# Altium schematic symbol library Analog.SchLib: 165 symbols (part 3 of 5)
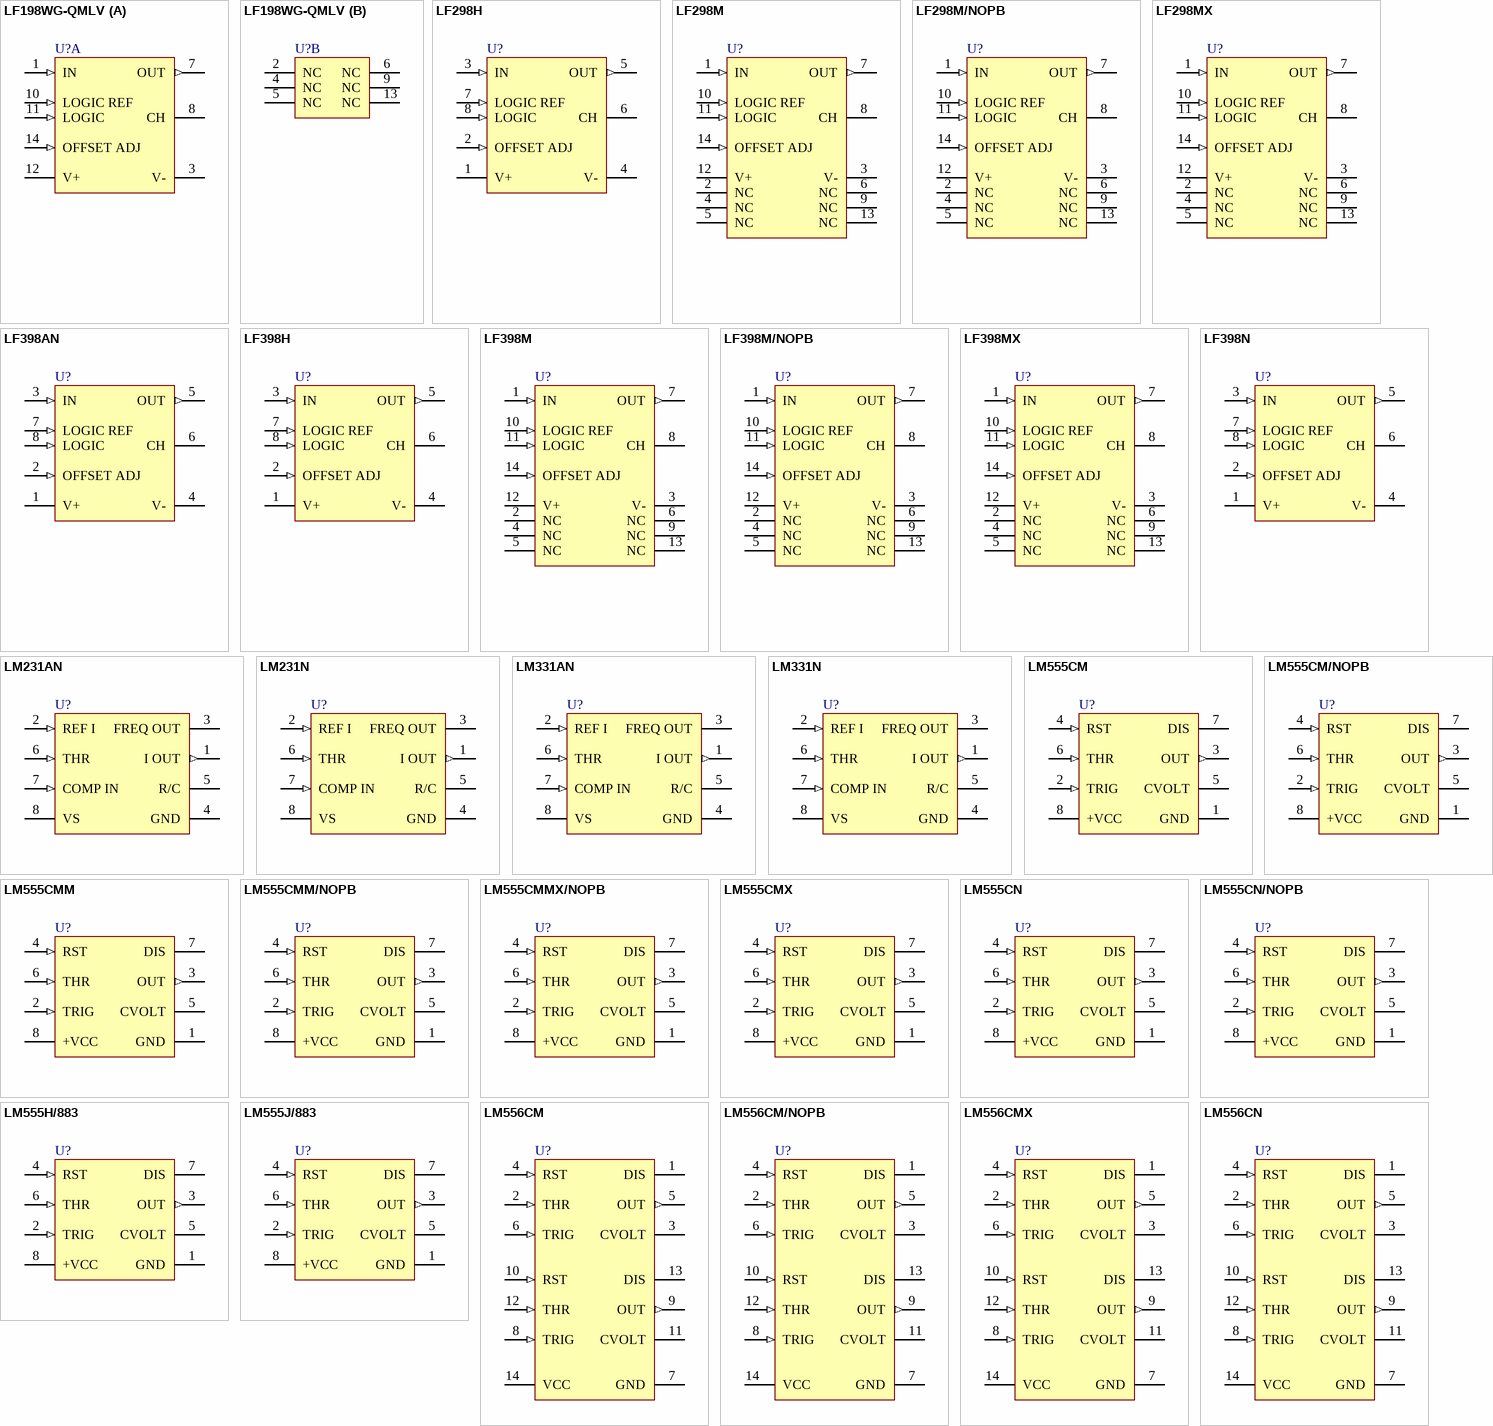
[diagram p9: symbols LF198WG-QMLV to LM556CN]

## LF398MX
designator U?
Monolithic Sample and Hold Circuits, 14-pin Narrow SOIC; PartNumber: LF398MX; Manufacturer: National Semiconductor; PackageTopMarking: NSUZXYTTE#*LF398M; PowerWise: N; CompType: Analog IC; High-Reliability: Y; DatasheetVersion: Jul-2000; PackageVersion: revJ, Jan-1996; PackageReference: M14A; PackageDescription: Molded Package S.O., .150in Wide, 14 Lead; RoHS: N; PinCount: 14; Code_JEDEC: MS-012AB; Code_IPC: SOIC127P600-14; ComponentLink1Description: Manufacturer URL; ComponentLink1URL: http://www.national.com/; ComponentLink2Description: LF398 Datasheet; ComponentLink2URL: http://www.national.com/ds/LF/LF398.pdf; ComponentLink3Description: LF398 Web Page; ComponentLink3URL: http://www.national.com/pf/LF/LF398.html; ComponentLink4Description: M14A Package Page; ComponentLink4URL: http://www.national.com/packaging/folders/m14a.html
footprint M14A_N (SOIC, 14-Leads, Body 8.6x3.9mm, Pitch 1.27mm, IPC Medium Density)
footprint M14A_L (SOIC, 14-Leads, Body 8.6x3.9mm, Pitch 1.27mm, IPC High Density)
footprint M14A_M (SOIC, 14-Leads, Body 8.6x3.9mm, Pitch 1.27mm, IPC Low Density)
pins: 1 IN (in), 2 NC, 3 V- (power), 4 NC, 5 NC, 6 NC, 7 OUT (out), 8 CH, 9 NC, 10 LOGIC REF (in), 11 LOGIC (in), 12 V+ (power), 13 NC, 14 OFFSET ADJ (in)

## LF398N
designator U?
Monolithic Sample and Hold Circuits, 8-pin MDIP; PartNumber: LF398N; Manufacturer: National Semiconductor; PackageTopMarking: NSUZXYTTE#*LF*398N; PowerWise: N; CompType: Analog IC; High-Reliability: Y; DatasheetVersion: Jul-2000; PackageVersion: revG, May-2006; PackageReference: N08E; PackageDescription: MDIP, .365 x .250 x .130in, 8 Lead, .100in Pitch; RoHS: N; PinCount: 8; Code_JEDEC: MS-001-BA; ComponentLink1Description: Manufacturer URL; ComponentLink1URL: http://www.national.com/; ComponentLink2Description: LF398 Datasheet; ComponentLink2URL: http://www.national.com/ds/LF/LF398.pdf; ComponentLink3Description: LF398 Web Page; ComponentLink3URL: http://www.national.com/pf/LF/LF398.html; ComponentLink4Description: N08E Package Page; ComponentLink4URL: http://www.national.com/packaging/folders/n08e.html
footprint N08E (DIP, 8-Leads, Row Spacing 7.62mm, Pitch 2.54mm, Body 9.91x6.35mm)
pins: 1 V+ (power), 2 OFFSET ADJ (in), 3 IN (in), 4 V- (power), 5 OUT (out), 6 CH, 7 LOGIC REF (in), 8 LOGIC (in)

## LM231AN
designator U?
Precision Voltage-to-Frequency Converters, 8-pin MDIP; PartNumber: LM231AN; Manufacturer: National Semiconductor; PackageTopMarking: NSUZXYTTE#*LM*231AN; PowerWise: N; CompType: Analog IC; High-Reliability: Y; DatasheetVersion: Apr-2006; PackageVersion: revG, May-2006; PackageReference: N08E; PackageDescription: MDIP, .365 x .250 x .130in, 8 Lead, .100in Pitch; RoHS: N; PinCount: 8; Code_JEDEC: MS-001-BA; ComponentLink1Description: Manufacturer URL; ComponentLink1URL: http://www.national.com/; ComponentLink2Description: LM231 Datasheet; ComponentLink2URL: http://www.national.com/ds/LM/LM231.pdf; ComponentLink3Description: LM231 Web Page; ComponentLink3URL: http://www.national.com/pf/LM/LM231.html; ComponentLink4Description: N08E Package Page; ComponentLink4URL: http://www.national.com/packaging/folders/n08e.html
footprint N08E (DIP, 8-Leads, Row Spacing 7.62mm, Pitch 2.54mm, Body 9.91x6.35mm)
pins: 1 I OUT (out), 2 REF I (in), 3 FREQ OUT (oc), 4 GND (power), 5 R/C, 6 THR (in), 7 COMP IN (in), 8 VS (power)

## LM231N
designator U?
Precision Voltage-to-Frequency Converters, 8-pin MDIP; PartNumber: LM231N; Manufacturer: National Semiconductor; PackageTopMarking: NSUZXYTTE#*LM*231N; PowerWise: N; CompType: Analog IC; High-Reliability: Y; DatasheetVersion: Apr-2006; PackageVersion: revG, May-2006; PackageReference: N08E; PackageDescription: MDIP, .365 x .250 x .130in, 8 Lead, .100in Pitch; RoHS: N; PinCount: 8; Code_JEDEC: MS-001-BA; ComponentLink1Description: Manufacturer URL; ComponentLink1URL: http://www.national.com/; ComponentLink2Description: LM231 Datasheet; ComponentLink2URL: http://www.national.com/ds/LM/LM231.pdf; ComponentLink3Description: LM231 Web Page; ComponentLink3URL: http://www.national.com/pf/LM/LM231.html; ComponentLink4Description: N08E Package Page; ComponentLink4URL: http://www.national.com/packaging/folders/n08e.html
footprint N08E (DIP, 8-Leads, Row Spacing 7.62mm, Pitch 2.54mm, Body 9.91x6.35mm)
pins: 1 I OUT (out), 2 REF I (in), 3 FREQ OUT (oc), 4 GND (power), 5 R/C, 6 THR (in), 7 COMP IN (in), 8 VS (power)

## LM331AN
designator U?
Precision Voltage-to-Frequency Converters, 8-pin MDIP; PartNumber: LM331AN; Manufacturer: National Semiconductor; PackageTopMarking: NSUZXYTTE#*LM*331AN; PowerWise: N; CompType: Analog IC; High-Reliability: Y; DatasheetVersion: Apr-2006; PackageVersion: revG, May-2006; PackageReference: N08E; PackageDescription: MDIP, .365 x .250 x .130in, 8 Lead, .100in Pitch; RoHS: N; PinCount: 8; Code_JEDEC: MS-001-BA; ComponentLink1Description: Manufacturer URL; ComponentLink1URL: http://www.national.com/; ComponentLink2Description: LM331 Datasheet; ComponentLink2URL: http://www.national.com/ds/LM/LM331.pdf; ComponentLink3Description: LM331 Web Page; ComponentLink3URL: http://www.national.com/pf/LM/LM331.html; ComponentLink4Description: N08E Package Page; ComponentLink4URL: http://www.national.com/packaging/folders/n08e.html
footprint N08E (DIP, 8-Leads, Row Spacing 7.62mm, Pitch 2.54mm, Body 9.91x6.35mm)
pins: 1 I OUT (out), 2 REF I (in), 3 FREQ OUT (oc), 4 GND (power), 5 R/C, 6 THR (in), 7 COMP IN (in), 8 VS (power)

## LM331N
designator U?
Precision Voltage-to-Frequency Converters, 8-pin MDIP; PartNumber: LM331N; Manufacturer: National Semiconductor; PackageTopMarking: NSUZXYTTE#*LM*331N; PowerWise: N; CompType: Analog IC; High-Reliability: Y; DatasheetVersion: Apr-2006; PackageVersion: revG, May-2006; PackageReference: N08E; PackageDescription: MDIP, .365 x .250 x .130in, 8 Lead, .100in Pitch; RoHS: N; PinCount: 8; Code_JEDEC: MS-001-BA; ComponentLink1Description: Manufacturer URL; ComponentLink1URL: http://www.national.com/; ComponentLink2Description: LM331 Datasheet; ComponentLink2URL: http://www.national.com/ds/LM/LM331.pdf; ComponentLink3Description: LM331 Web Page; ComponentLink3URL: http://www.national.com/pf/LM/LM331.html; ComponentLink4Description: N08E Package Page; ComponentLink4URL: http://www.national.com/packaging/folders/n08e.html
footprint N08E (DIP, 8-Leads, Row Spacing 7.62mm, Pitch 2.54mm, Body 9.91x6.35mm)
pins: 1 I OUT (out), 2 REF I (in), 3 FREQ OUT (oc), 4 GND (power), 5 R/C, 6 THR (in), 7 COMP IN (in), 8 VS (power)

## LM555CM
designator U?
Timer, 8-pin Narrow SOIC; PartNumber: LM555CM; Manufacturer: National Semiconductor; PackageTopMarking: NSZXTT*LM*555CM; PowerWise: N; CompType: Analog IC; High-Reliability: Y; DatasheetVersion: Jul-2006; PackageVersion: revM, May-2009; PackageReference: M08A; PackageDescription: SOIC Narrow, 4.9 x 3.9 x 1.45mm, 8 Lead, 1.27mm Pitch; RoHS: N; PinCount: 8; Code_JEDEC: MS-012-AA; Code_IPC: SOIC127P600-8; ComponentLink1Description: Manufacturer URL; ComponentLink1URL: http://www.national.com/; ComponentLink2Description: LM555 Datasheet; ComponentLink2URL: http://www.national.com/ds/LM/LM555.pdf; ComponentLink3Description: LM555 Web Page; ComponentLink3URL: http://www.national.com/pf/LM/LM555.html; ComponentLink4Description: M08A Package Page; ComponentLink4URL: http://www.national.com/packaging/folders/m08a.html
footprint M08A_N (SOIC, 8-Leads, Body 4.9x3.9mm, Pitch 1.27mm, IPC Medium Density)
footprint M08A_L (SOIC, 8-Leads, Body 4.9x3.9mm, Pitch 1.27mm, IPC High Density)
footprint M08A_M (SOIC, 8-Leads, Body 4.9x3.9mm, Pitch 1.27mm, IPC Low Density)
pins: 1 GND (power), 2 TRIG (in), 3 OUT (out), 4 RST (in), 5 CVOLT, 6 THR (in), 7 DIS (oc), 8 +VCC (power)

## LM555CM/NOPB
designator U?
Timer, 8-pin Narrow SOIC, Pb-Free; PartNumber: LM555CM/NOPB; Manufacturer: National Semiconductor; PackageTopMarking: NSZXTT*LM*555CM; PowerWise: N; CompType: Analog IC; High-Reliability: Y; DatasheetVersion: Jul-2006; PackageVersion: revM, May-2009; PackageReference: M08A; PackageDescription: SOIC Narrow, 4.9 x 3.9 x 1.45mm, 8 Lead, 1.27mm Pitch; RoHS: Y; PinCount: 8; Code_JEDEC: MS-012-AA; Code_IPC: SOIC127P600-8; ComponentLink1Description: Manufacturer URL; ComponentLink1URL: http://www.national.com/; ComponentLink2Description: LM555 Datasheet; ComponentLink2URL: http://www.national.com/ds/LM/LM555.pdf; ComponentLink3Description: LM555 Web Page; ComponentLink3URL: http://www.national.com/pf/LM/LM555.html; ComponentLink4Description: M08A Package Page; ComponentLink4URL: http://www.national.com/packaging/folders/m08a.html
footprint M08A_N (SOIC, 8-Leads, Body 4.9x3.9mm, Pitch 1.27mm, IPC Medium Density)
footprint M08A_L (SOIC, 8-Leads, Body 4.9x3.9mm, Pitch 1.27mm, IPC High Density)
footprint M08A_M (SOIC, 8-Leads, Body 4.9x3.9mm, Pitch 1.27mm, IPC Low Density)
pins: 1 GND (power), 2 TRIG (in), 3 OUT (out), 4 RST (in), 5 CVOLT, 6 THR (in), 7 DIS (oc), 8 +VCC (power)

## LM555CMM
designator U?
Timer, 8-pin Mini SOIC; PartNumber: LM555CMM; Manufacturer: National Semiconductor; PackageTopMarking: ZXTT*Z55; PowerWise: N; CompType: Analog IC; High-Reliability: Y; DatasheetVersion: Jul-2006; PackageVersion: revF, Apr-2008; PackageReference: MUA08A; PackageDescription: MINI SOIC, .118 x .118 x .034in, 8 Lead, .0256in Pitch; RoHS: N; PinCount: 8; Code_JEDEC: MO-187-AA; ComponentLink1Description: Manufacturer URL; ComponentLink1URL: http://www.national.com/; ComponentLink2Description: LM555 Datasheet; ComponentLink2URL: http://www.national.com/ds/LM/LM555.pdf; ComponentLink3Description: LM555 Web Page; ComponentLink3URL: http://www.national.com/pf/LM/LM555.html; ComponentLink4Description: MUA08A Package Page; ComponentLink4URL: http://www.national.com/packaging/folders/mua08a.html
footprint MUA08A_N (TSOP, 8-Leads, Body 3x3mm, Pitch 0.65mm, IPC Medium Density)
footprint MUA08A_L (TSOP, 8-Leads, Body 3x3mm, Pitch 0.65mm, IPC High Density)
footprint MUA08A_M (TSOP, 8-Leads, Body 3x3mm, Pitch 0.65mm, IPC Low Density)
pins: 1 GND (power), 2 TRIG (in), 3 OUT (out), 4 RST (in), 5 CVOLT, 6 THR (in), 7 DIS (oc), 8 +VCC (power)

## LM555CMM/NOPB
designator U?
Timer, 8-pin Mini SOIC, Pb-Free; PartNumber: LM555CMM/NOPB; Manufacturer: National Semiconductor; PackageTopMarking: ZXTT*Z55; PowerWise: N; CompType: Analog IC; High-Reliability: Y; DatasheetVersion: Jul-2006; PackageVersion: revF, Apr-2008; PackageReference: MUA08A; PackageDescription: MINI SOIC, .118 x .118 x .034in, 8 Lead, .0256in Pitch; RoHS: Y; PinCount: 8; Code_JEDEC: MO-187-AA; ComponentLink1Description: Manufacturer URL; ComponentLink1URL: http://www.national.com/; ComponentLink2Description: LM555 Datasheet; ComponentLink2URL: http://www.national.com/ds/LM/LM555.pdf; ComponentLink3Description: LM555 Web Page; ComponentLink3URL: http://www.national.com/pf/LM/LM555.html; ComponentLink4Description: MUA08A Package Page; ComponentLink4URL: http://www.national.com/packaging/folders/mua08a.html
footprint MUA08A_N (TSOP, 8-Leads, Body 3x3mm, Pitch 0.65mm, IPC Medium Density)
footprint MUA08A_L (TSOP, 8-Leads, Body 3x3mm, Pitch 0.65mm, IPC High Density)
footprint MUA08A_M (TSOP, 8-Leads, Body 3x3mm, Pitch 0.65mm, IPC Low Density)
pins: 1 GND (power), 2 TRIG (in), 3 OUT (out), 4 RST (in), 5 CVOLT, 6 THR (in), 7 DIS (oc), 8 +VCC (power)

## LM555CMMX/NOPB
designator U?
Timer, 8-pin Mini SOIC, Pb-Free; PartNumber: LM555CMMX/NOPB; Manufacturer: National Semiconductor; PackageTopMarking: ZXTT*Z55; PowerWise: N; CompType: Analog IC; High-Reliability: Y; DatasheetVersion: Jul-2006; PackageVersion: revF, Apr-2008; PackageReference: MUA08A; PackageDescription: MINI SOIC, .118 x .118 x .034in, 8 Lead, .0256in Pitch; RoHS: N; PinCount: 8; Code_JEDEC: MO-187-AA; ComponentLink1Description: Manufacturer URL; ComponentLink1URL: http://www.national.com/; ComponentLink2Description: LM555 Datasheet; ComponentLink2URL: http://www.national.com/ds/LM/LM555.pdf; ComponentLink3Description: LM555 Web Page; ComponentLink3URL: http://www.national.com/pf/LM/LM555.html; ComponentLink4Description: MUA08A package page; ComponentLink4URL: http://www.national.com/packaging/folders/mua08a.html
footprint MUA08A_N (TSOP, 8-Leads, Body 3x3mm, Pitch 0.65mm, IPC Medium Density)
footprint MUA08A_L (TSOP, 8-Leads, Body 3x3mm, Pitch 0.65mm, IPC High Density)
footprint MUA08A_M (TSOP, 8-Leads, Body 3x3mm, Pitch 0.65mm, IPC Low Density)
pins: 1 GND (power), 2 TRIG (in), 3 OUT (out), 4 RST (in), 5 CVOLT, 6 THR (in), 7 DIS (oc), 8 +VCC (power)

## LM555CMX
designator U?
Timer, 8-pin Narrow SOIC; PartNumber: LM555CMX; Manufacturer: National Semiconductor; PackageTopMarking: NSZXTT*LM*555CM; PowerWise: N; CompType: Analog IC; High-Reliability: Y; DatasheetVersion: Jul-2006; PackageVersion: revM, May-2009; PackageReference: M08A; PackageDescription: SOIC Narrow, 4.9 x 3.9 x 1.45mm, 8 Lead, 1.27mm Pitch; RoHS: N; PinCount: 8; Code_JEDEC: MS-012-AA; Code_IPC: SOIC127P600-8; ComponentLink1Description: Manufacturer URL; ComponentLink1URL: http://www.national.com/; ComponentLink2Description: LM555 Datasheet; ComponentLink2URL: http://www.national.com/ds/LM/LM555.pdf; ComponentLink3Description: LM555 Web Page; ComponentLink3URL: http://www.national.com/pf/LM/LM555.html; ComponentLink4Description: M08A Package Page; ComponentLink4URL: http://www.national.com/packaging/folders/m08a.html
footprint M08A_N (SOIC, 8-Leads, Body 4.9x3.9mm, Pitch 1.27mm, IPC Medium Density)
footprint M08A_L (SOIC, 8-Leads, Body 4.9x3.9mm, Pitch 1.27mm, IPC High Density)
footprint M08A_M (SOIC, 8-Leads, Body 4.9x3.9mm, Pitch 1.27mm, IPC Low Density)
pins: 1 GND (power), 2 TRIG (in), 3 OUT (out), 4 RST (in), 5 CVOLT, 6 THR (in), 7 DIS (oc), 8 +VCC (power)

## LM555CN
designator U?
Timer, 8-pin MDIP; PartNumber: LM555CN; Manufacturer: National Semiconductor; PackageTopMarking: NSUZXYTTE#*LM*555CN; PowerWise: N; CompType: Analog IC; High-Reliability: Y; DatasheetVersion: Jul-2006; PackageVersion: revG, May-2006; PackageReference: N08E; PackageDescription: MDIP, .365 x .250 x .130in, 8 Lead, .100in Pitch; RoHS: N; PinCount: 8; Code_JEDEC: MS-001-BA; ComponentLink1Description: Manufacturer URL; ComponentLink1URL: http://www.national.com/; ComponentLink2Description: LM555 Datasheet; ComponentLink2URL: http://www.national.com/ds/LM/LM555.pdf; ComponentLink3Description: LM555 Web Page; ComponentLink3URL: http://www.national.com/pf/LM/LM555.html; ComponentLink4Description: N08E Package Page; ComponentLink4URL: http://www.national.com/packaging/folders/n08e.html
footprint N08E (DIP, 8-Leads, Row Spacing 7.62mm, Pitch 2.54mm, Body 9.91x6.35mm)
pins: 1 GND (power), 2 TRIG (in), 3 OUT (out), 4 RST (in), 5 CVOLT, 6 THR (in), 7 DIS (oc), 8 +VCC (power)

## LM555CN/NOPB
designator U?
Timer, 8-pin MDIP, Pb-Free; PartNumber: LM555CN/NOPB; Manufacturer: National Semiconductor; PackageTopMarking: NSUZXYTTE#*LM*555CN; PowerWise: N; CompType: Analog IC; High-Reliability: Y; DatasheetVersion: Jul-2006; PackageVersion: revG, May-2006; PackageReference: N08E; PackageDescription: MDIP, .365 x .250 x .130in, 8 Lead, .100in Pitch; RoHS: Y; PinCount: 8; Code_JEDEC: MS-001-BA; ComponentLink1Description: Manufacturer URL; ComponentLink1URL: http://www.national.com/; ComponentLink2Description: LM555 Datasheet; ComponentLink2URL: http://www.national.com/ds/LM/LM555.pdf; ComponentLink3Description: LM555 Web Page; ComponentLink3URL: http://www.national.com/pf/LM/LM555.html; ComponentLink4Description: N08E Package Page; ComponentLink4URL: http://www.national.com/packaging/folders/n08e.html
footprint N08E (DIP, 8-Leads, Row Spacing 7.62mm, Pitch 2.54mm, Body 9.91x6.35mm)
pins: 1 GND (power), 2 TRIG (in), 3 OUT (out), 4 RST (in), 5 CVOLT, 6 THR (in), 7 DIS (oc), 8 +VCC (power)

## LM555H/883
designator U?
Timer, 8-pin TO-99; PartNumber: LM555H/883; Manufacturer: National Semiconductor; PackageTopMarking: NSZSSXXYYA LM555H/883 Q; PowerWise: N; CompType: Analog IC; High-Reliability: Y; DatasheetVersion: Jul-2006; PackageVersion: revF, Jun-1995; PackageReference: H08C; PackageDescription: Metal Can, TO-99, 8 Lead, .200 Dia., P.C.; RoHS: N; PinCount: 8; Code_JEDEC: TO-99; ComponentLink1Description: Manufacturer URL; ComponentLink1URL: http://www.national.com/; ComponentLink2Description: LM555 Datasheet; ComponentLink2URL: http://www.national.com/ds/LM/LM555QML.pdf; ComponentLink3Description: LM555 Web Page; ComponentLink3URL: http://www.national.com/pf/LM/LM555.html; ComponentLink4Description: H08C Package Page; ComponentLink4URL: http://www.national.com/packaging/folders/h08c.html
footprint H08C (Can; 8 Leads; Pin Circle Dia. 5.08 mm; Lead Dia. 0.48 mm (max))
pins: 1 GND (power), 2 TRIG (in), 3 OUT (out), 4 RST (in), 5 CVOLT, 6 THR (in), 7 DIS (oc), 8 +VCC (power)

## LM555J/883
designator U?
Timer, 8-pin CerDIP; PartNumber: LM555J/883; Manufacturer: National Semiconductor; PackageTopMarking: NSZSSXXYYA*LM555J/*883 Q; PowerWise: N; CompType: Analog IC; High-Reliability: Y; DatasheetVersion: Jul-2006; PackageVersion: revM, Jul-2002; PackageReference: J08A; PackageDescription: Cerdip, .400 x .310in Body, 8 Lead, .300in Centers, .100in Pitch; RoHS: N; PinCount: 8; ComponentLink1Description: Manufacturer URL; ComponentLink1URL: http://www.national.com/; ComponentLink2Description: LM555 Datasheet; ComponentLink2URL: http://www.national.com/ds/LM/LM555QML.pdf; ComponentLink3Description: LM555 Web Page; ComponentLink3URL: http://www.national.com/pf/LM/LM555.html; ComponentLink4Description: J08A Package Page; ComponentLink4URL: http://www.national.com/packaging/folders/j08a.html
footprint J08A (DIP, 8-Leads, Row Spacing 7.62mm, Pitch 2.54mm, Body 9.78x6.73mm)
pins: 1 GND (power), 2 TRIG (in), 3 OUT (out), 4 RST (in), 5 CVOLT, 6 THR (in), 7 DIS (oc), 8 +VCC (power)

## LM556CM
designator U?
Dual Timer, 14-pin Narrow SOIC; PartNumber: LM556CM; Manufacturer: National Semiconductor; PackageTopMarking: NSUZXYTTE#*LM556CM; PowerWise: N; CompType: Analog IC; High-Reliability: Y; DatasheetVersion: Mar-2000; PackageVersion: revJ, Jan-1996; PackageReference: M14A; PackageDescription: Molded Package S.O., .150in Wide, 14 Lead; RoHS: N; PinCount: 14; Code_JEDEC: MS-012AB; Code_IPC: SOIC127P600-14; ComponentLink1Description: Manufacturer URL; ComponentLink1URL: http://www.national.com/; ComponentLink2Description: LM556 Datasheet; ComponentLink2URL: http://www.national.com/ds/LM/LM556.pdf; ComponentLink3Description: LM556 Web Page; ComponentLink3URL: http://www.national.com/pf/LM/LM556.html; ComponentLink4Description: M14A Package Page; ComponentLink4URL: http://www.national.com/packaging/folders/m14a.html
footprint M14A_N (SOIC, 14-Leads, Body 8.6x3.9mm, Pitch 1.27mm, IPC Medium Density)
footprint M14A_L (SOIC, 14-Leads, Body 8.6x3.9mm, Pitch 1.27mm, IPC High Density)
footprint M14A_M (SOIC, 14-Leads, Body 8.6x3.9mm, Pitch 1.27mm, IPC Low Density)
pins: 1 DIS (oc), 2 THR (in), 3 CVOLT, 4 RST (in), 5 OUT (out), 6 TRIG (in), 7 GND (power), 8 TRIG (in), 9 OUT (out), 10 RST (in), 11 CVOLT, 12 THR (in), 13 DIS (oc), 14 VCC (power)

## LM556CM/NOPB
designator U?
Dual Timer, 14-pin Narrow SOIC, Pb-Free; PartNumber: LM556CM/NOPB; Manufacturer: National Semiconductor; PackageTopMarking: NSUZXYTTE#*LM556CM; PowerWise: N; CompType: Analog IC; High-Reliability: Y; DatasheetVersion: Mar-2000; PackageVersion: revJ, Jan-1996; PackageReference: M14A; PackageDescription: Molded Package S.O., .150in Wide, 14 Lead; RoHS: Y; PinCount: 14; Code_JEDEC: MS-012AB; Code_IPC: SOIC127P600-14; ComponentLink1Description: Manufacturer URL; ComponentLink1URL: http://www.national.com/; ComponentLink2Description: LM556 Datasheet; ComponentLink2URL: http://www.national.com/ds/LM/LM556.pdf; ComponentLink3Description: LM556 Web Page; ComponentLink3URL: http://www.national.com/pf/LM/LM556.html; ComponentLink4Description: M14A Package Page; ComponentLink4URL: http://www.national.com/packaging/folders/m14a.html
footprint M14A_N (SOIC, 14-Leads, Body 8.6x3.9mm, Pitch 1.27mm, IPC Medium Density)
footprint M14A_L (SOIC, 14-Leads, Body 8.6x3.9mm, Pitch 1.27mm, IPC High Density)
footprint M14A_M (SOIC, 14-Leads, Body 8.6x3.9mm, Pitch 1.27mm, IPC Low Density)
pins: 1 DIS (oc), 2 THR (in), 3 CVOLT, 4 RST (in), 5 OUT (out), 6 TRIG (in), 7 GND (power), 8 TRIG (in), 9 OUT (out), 10 RST (in), 11 CVOLT, 12 THR (in), 13 DIS (oc), 14 VCC (power)

## LM556CMX
designator U?
Dual Timer, 14-pin Narrow SOIC; PartNumber: LM556CMX; Manufacturer: National Semiconductor; PackageTopMarking: NSUZXYTTE#*LM556CM; PowerWise: N; CompType: Analog IC; High-Reliability: Y; DatasheetVersion: Mar-2000; PackageVersion: revJ, Jan-1996; PackageReference: M14A; PackageDescription: Molded Package S.O., .150in Wide, 14 Lead; RoHS: N; PinCount: 14; Code_JEDEC: MS-012AB; Code_IPC: SOIC127P600-14; ComponentLink1Description: Manufacturer URL; ComponentLink1URL: http://www.national.com/; ComponentLink2Description: LM556 Datasheet; ComponentLink2URL: http://www.national.com/ds/LM/LM556.pdf; ComponentLink3Description: LM556 Web Page; ComponentLink3URL: http://www.national.com/pf/LM/LM556.html; ComponentLink4Description: M14A Package Page; ComponentLink4URL: http://www.national.com/packaging/folders/m14a.html
footprint M14A_N (SOIC, 14-Leads, Body 8.6x3.9mm, Pitch 1.27mm, IPC Medium Density)
footprint M14A_L (SOIC, 14-Leads, Body 8.6x3.9mm, Pitch 1.27mm, IPC High Density)
footprint M14A_M (SOIC, 14-Leads, Body 8.6x3.9mm, Pitch 1.27mm, IPC Low Density)
pins: 1 DIS (oc), 2 THR (in), 3 CVOLT, 4 RST (in), 5 OUT (out), 6 TRIG (in), 7 GND (power), 8 TRIG (in), 9 OUT (out), 10 RST (in), 11 CVOLT, 12 THR (in), 13 DIS (oc), 14 VCC (power)

## LM556CN
designator U?
Dual Timer, 14-pin MDIP; PartNumber: LM556CN; Manufacturer: National Semiconductor; PackageTopMarking: NSUZXYYTTE#*LM556CN; PowerWise: N; CompType: Analog IC; High-Reliability: Y; DatasheetVersion: Mar-2000; PackageVersion: revG, May-2006; PackageReference: N14A; PackageDescription: MDIP, .750 x .250 x.130in, 14 Lead, .100in Pitch; RoHS: N; PinCount: 14; Code_JEDEC: MS-001-AA; ComponentLink1Description: Manufacturer URL; ComponentLink1URL: http://www.national.com/; ComponentLink2Description: LM556 Datasheet; ComponentLink2URL: http://www.national.com/ds/LM/LM556.pdf; ComponentLink3Description: LM556 Web Page; ComponentLink3URL: http://www.national.com/pf/LM/LM556.html; ComponentLink4Description: N14A Package Page; ComponentLink4URL: http://www.national.com/packaging/folders/n14a.html
footprint N14A (DIP, 14-Leads, Row Spacing 7.62mm, Pitch 2.54mm, Body 19.56x6.35mm)
pins: 1 DIS (oc), 2 THR (in), 3 CVOLT, 4 RST (in), 5 OUT (out), 6 TRIG (in), 7 GND (power), 8 TRIG (in), 9 OUT (out), 10 RST (in), 11 CVOLT, 12 THR (in), 13 DIS (oc), 14 VCC (power)

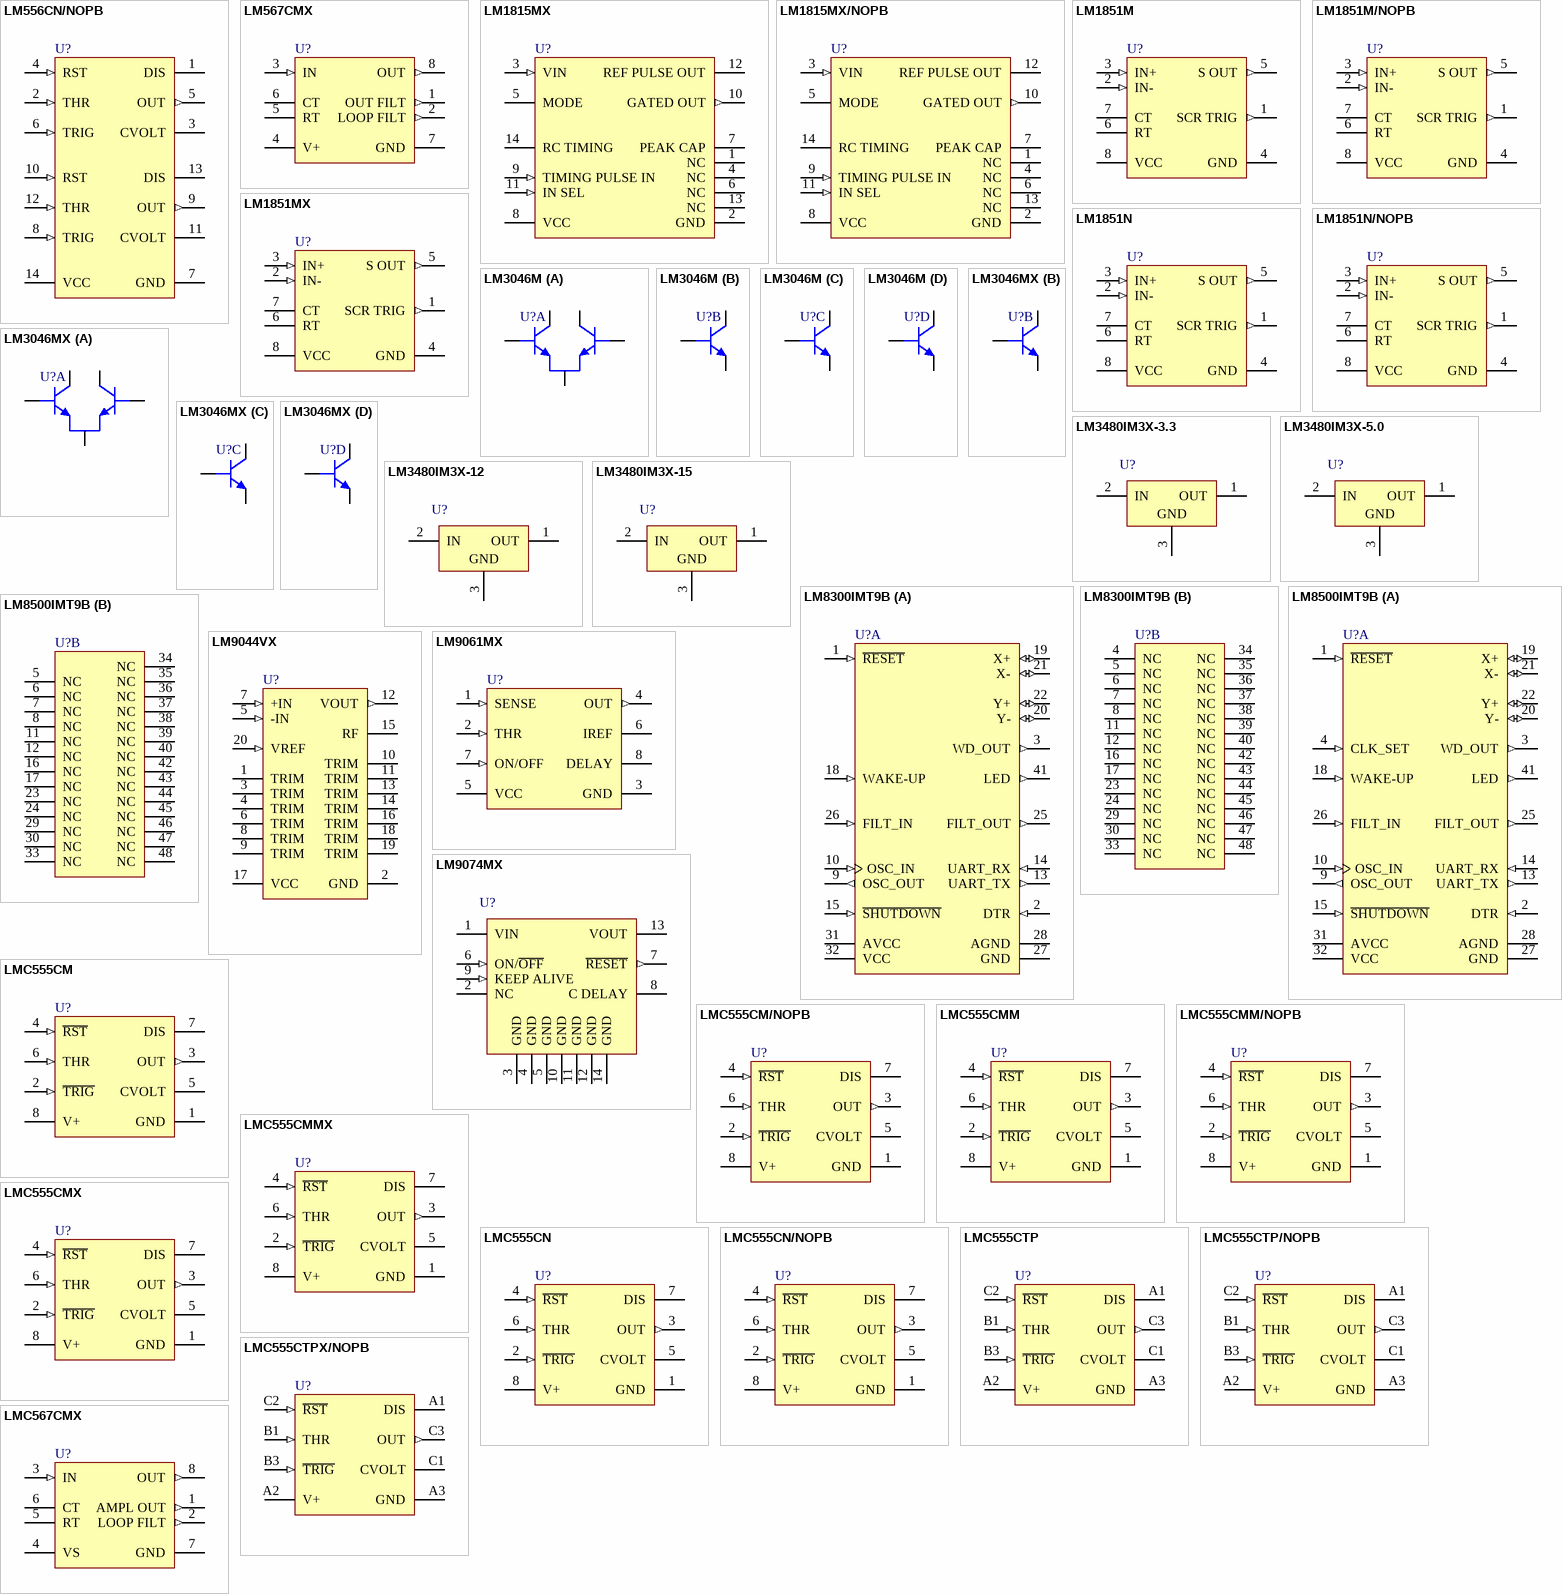
[diagram p5: symbols LM556CN/NOPB to LMC567CMX]

## LM556CN/NOPB
designator U?
Dual Timer, 14-pin MDIP, Pb-Free; PartNumber: LM556CN/NOPB; Manufacturer: National Semiconductor; PackageTopMarking: NSUZXYYTTE#*LM556CN; PowerWise: N; CompType: Analog IC; High-Reliability: Y; DatasheetVersion: Mar-2000; PackageVersion: revG, May-2006; PackageReference: N14A; PackageDescription: MDIP, .750 x .250 x.130in, 14 Lead, .100in Pitch; RoHS: Y; PinCount: 14; Code_JEDEC: MS-001-AA; ComponentLink1Description: Manufacturer URL; ComponentLink1URL: http://www.national.com/; ComponentLink2Description: LM556 Datasheet; ComponentLink2URL: http://www.national.com/ds/LM/LM556.pdf; ComponentLink3Description: LM556 Web Page; ComponentLink3URL: http://www.national.com/pf/LM/LM556.html; ComponentLink4Description: N14A Package Page; ComponentLink4URL: http://www.national.com/packaging/folders/n14a.html
footprint N14A (DIP, 14-Leads, Row Spacing 7.62mm, Pitch 2.54mm, Body 19.56x6.35mm)
pins: 1 DIS (oc), 2 THR (in), 3 CVOLT, 4 RST (in), 5 OUT (out), 6 TRIG (in), 7 GND (power), 8 TRIG (in), 9 OUT (out), 10 RST (in), 11 CVOLT, 12 THR (in), 13 DIS (oc), 14 VCC (power)

## LM567CMX
designator U?
Tone Decoder, 8-pin Narrow SOIC; PartNumber: LM567CMX; Manufacturer: National Semiconductor; PackageTopMarking: NSZXTT*LM*567CM; PowerWise: N; CompType: Analog IC; High-Reliability: Y; DatasheetVersion: Feb-2003; PackageVersion: revM, May-2009; PackageReference: M08A; PackageDescription: SOIC Narrow, 4.9 x 3.9 x 1.45mm, 8 Lead, 1.27mm Pitch; RoHS: N; PinCount: 8; Code_JEDEC: MS-012-AA; Code_IPC: SOIC127P600-8; ComponentLink1Description: Manufacturer URL; ComponentLink1URL: http://www.national.com/; ComponentLink2Description: LM567C Datasheet; ComponentLink2URL: http://www.national.com/ds/LM/LM567C.pdf; ComponentLink3Description: LM567C Web Page; ComponentLink3URL: http://www.national.com/pf/LM/LM567C.html; ComponentLink4Description: M08A Package Page; ComponentLink4URL: http://www.national.com/packaging/folders/m08a.html
footprint M08A_N (SOIC, 8-Leads, Body 4.9x3.9mm, Pitch 1.27mm, IPC Medium Density)
footprint M08A_L (SOIC, 8-Leads, Body 4.9x3.9mm, Pitch 1.27mm, IPC High Density)
footprint M08A_M (SOIC, 8-Leads, Body 4.9x3.9mm, Pitch 1.27mm, IPC Low Density)
pins: 1 OUT FILT (out), 2 LOOP FILT (out), 3 IN (in), 4 V+ (power), 5 RT, 6 CT, 7 GND (power), 8 OUT (out)

## LM1815MX
designator U?
Adaptive Variable Reluctance Sensor Amplifier, 14-pin Narrow SOIC; PartNumber: LM1815MX; Manufacturer: National Semiconductor; PackageTopMarking: NSUZXYTTE#*LM1815M; PowerWise: N; CompType: Analog IC; High-Reliability: Y; DatasheetVersion: Mar-2005; PackageVersion: revJ, Jan-1996; PackageReference: M14A; PackageDescription: Molded Package S.O., .150in Wide, 14 Lead; RoHS: N; PinCount: 14; Code_JEDEC: MS-012AB; Code_IPC: SOIC127P600-14; ComponentLink1Description: Manufacturer URL; ComponentLink1URL: http://www.national.com/; ComponentLink2Description: LM1815 Datasheet; ComponentLink2URL: http://www.national.com/ds/LM/LM1815.pdf; ComponentLink3Description: LM1815 Web Page; ComponentLink3URL: http://www.national.com/pf/LM/LM1815.html; ComponentLink4Description: M14A Package Page; ComponentLink4URL: http://www.national.com/packaging/folders/m14a.html
footprint M14A_N (SOIC, 14-Leads, Body 8.6x3.9mm, Pitch 1.27mm, IPC Medium Density)
footprint M14A_L (SOIC, 14-Leads, Body 8.6x3.9mm, Pitch 1.27mm, IPC High Density)
footprint M14A_M (SOIC, 14-Leads, Body 8.6x3.9mm, Pitch 1.27mm, IPC Low Density)
pins: 1 NC, 2 GND (power), 3 VIN (in), 4 NC, 5 MODE, 6 NC, 7 PEAK CAP, 8 VCC (power), 9 TIMING PULSE IN (in), 10 GATED OUT (out), 11 IN SEL (in), 12 REF PULSE OUT (oc), 13 NC, 14 RC TIMING

## LM1815MX/NOPB
designator U?
Adaptive Variable Reluctance Sensor Amplifier, 14-pin Narrow SOIC, Pb-Free; PartNumber: LM1815MX/NOPB; Manufacturer: National Semiconductor; PackageTopMarking: NSUZXYTTE#*LM1815M; PowerWise: N; CompType: Analog IC; High-Reliability: Y; DatasheetVersion: Mar-2005; PackageVersion: revJ, Jan-1996; PackageReference: M14A; PackageDescription: Molded Package S.O., .150in Wide, 14 Lead; RoHS: Y; PinCount: 14; Code_JEDEC: MS-012AB; Code_IPC: SOIC127P600-14; ComponentLink1Description: Manufacturer URL; ComponentLink1URL: http://www.national.com/; ComponentLink2Description: LM1815 Datasheet; ComponentLink2URL: http://www.national.com/ds/LM/LM1815.pdf; ComponentLink3Description: LM1815 Web Page; ComponentLink3URL: http://www.national.com/pf/LM/LM1815.html; ComponentLink4Description: M14A Package Page; ComponentLink4URL: http://www.national.com/packaging/folders/m14a.html
footprint M14A_N (SOIC, 14-Leads, Body 8.6x3.9mm, Pitch 1.27mm, IPC Medium Density)
footprint M14A_L (SOIC, 14-Leads, Body 8.6x3.9mm, Pitch 1.27mm, IPC High Density)
footprint M14A_M (SOIC, 14-Leads, Body 8.6x3.9mm, Pitch 1.27mm, IPC Low Density)
pins: 1 NC, 2 GND (power), 3 VIN (in), 4 NC, 5 MODE, 6 NC, 7 PEAK CAP, 8 VCC (power), 9 TIMING PULSE IN (in), 10 GATED OUT (out), 11 IN SEL (in), 12 REF PULSE OUT (oc), 13 NC, 14 RC TIMING

## LM1851M
designator U?
Ground Fault Interrupter, 8-pin Narrow SOIC; PartNumber: LM1851M; Manufacturer: National Semiconductor; PackageTopMarking: NSZXTT*LM*1851M; PowerWise: N; CompType: Analog IC; High-Reliability: Y; DatasheetVersion: Jun-1992; PackageVersion: revM, May-2009; PackageReference: M08A; PackageDescription: SOIC Narrow, 4.9 x 3.9 x 1.45mm, 8 Lead, 1.27mm Pitch; RoHS: N; PinCount: 8; Code_JEDEC: MS-012-AA; Code_IPC: SOIC127P600-8; ComponentLink1Description: Manufacturer URL; ComponentLink1URL: http://www.national.com/; ComponentLink2Description: LM1851 Datasheet; ComponentLink2URL: http://www.national.com/ds/LM/LM1851.pdf; ComponentLink3Description: LM1851 Web Page; ComponentLink3URL: http://www.national.com/pf/LM/LM1851.html; ComponentLink4Description: M08A Package Page; ComponentLink4URL: http://www.national.com/packaging/folders/m08a.html
footprint M08A_N (SOIC, 8-Leads, Body 4.9x3.9mm, Pitch 1.27mm, IPC Medium Density)
footprint M08A_L (SOIC, 8-Leads, Body 4.9x3.9mm, Pitch 1.27mm, IPC High Density)
footprint M08A_M (SOIC, 8-Leads, Body 4.9x3.9mm, Pitch 1.27mm, IPC Low Density)
pins: 1 SCR TRIG (out), 2 IN- (in), 3 IN+ (in), 4 GND (power), 5 S OUT (out), 6 RT, 7 CT, 8 VCC (power)

## LM1851M/NOPB
designator U?
Ground Fault Interrupter, 8-pin Narrow SOIC, Pb-Free; PartNumber: LM1851M/NOPB; Manufacturer: National Semiconductor; PackageTopMarking: NSZXTT*LM*1851M; PowerWise: N; CompType: Analog IC; High-Reliability: Y; DatasheetVersion: Jun-1992; PackageVersion: revM, May-2009; PackageReference: M08A; PackageDescription: SOIC Narrow, 4.9 x 3.9 x 1.45mm, 8 Lead, 1.27mm Pitch; RoHS: Y; PinCount: 8; Code_JEDEC: MS-012-AA; Code_IPC: SOIC127P600-8; ComponentLink1Description: Manufacturer URL; ComponentLink1URL: http://www.national.com/; ComponentLink2Description: LM1851 Datasheet; ComponentLink2URL: http://www.national.com/ds/LM/LM1851.pdf; ComponentLink3Description: LM1851 Web Page; ComponentLink3URL: http://www.national.com/pf/LM/LM1851.html; ComponentLink4Description: M08A Package Page; ComponentLink4URL: http://www.national.com/packaging/folders/m08a.html
footprint M08A_N (SOIC, 8-Leads, Body 4.9x3.9mm, Pitch 1.27mm, IPC Medium Density)
footprint M08A_L (SOIC, 8-Leads, Body 4.9x3.9mm, Pitch 1.27mm, IPC High Density)
footprint M08A_M (SOIC, 8-Leads, Body 4.9x3.9mm, Pitch 1.27mm, IPC Low Density)
pins: 1 SCR TRIG (out), 2 IN- (in), 3 IN+ (in), 4 GND (power), 5 S OUT (out), 6 RT, 7 CT, 8 VCC (power)

## LM1851MX
designator U?
Ground Fault Interrupter, 8-pin Narrow SOIC; PartNumber: LM1851MX; Manufacturer: National Semiconductor; PackageTopMarking: NSZXTT*LM*1851M; PowerWise: N; CompType: Analog IC; High-Reliability: Y; DatasheetVersion: Jun-1992; PackageVersion: revM, May-2009; PackageReference: M08A; PackageDescription: SOIC Narrow, 4.9 x 3.9 x 1.45mm, 8 Lead, 1.27mm Pitch; RoHS: N; PinCount: 8; Code_JEDEC: MS-012-AA; Code_IPC: SOIC127P600-8; ComponentLink1Description: Manufacturer URL; ComponentLink1URL: http://www.national.com/; ComponentLink2Description: LM1851 Datasheet; ComponentLink2URL: http://www.national.com/ds/LM/LM1851.pdf; ComponentLink3Description: LM1851 Web Page; ComponentLink3URL: http://www.national.com/pf/LM/LM1851.html; ComponentLink4Description: M08A Package Page; ComponentLink4URL: http://www.national.com/packaging/folders/m08a.html
footprint M08A_N (SOIC, 8-Leads, Body 4.9x3.9mm, Pitch 1.27mm, IPC Medium Density)
footprint M08A_L (SOIC, 8-Leads, Body 4.9x3.9mm, Pitch 1.27mm, IPC High Density)
footprint M08A_M (SOIC, 8-Leads, Body 4.9x3.9mm, Pitch 1.27mm, IPC Low Density)
pins: 1 SCR TRIG (out), 2 IN- (in), 3 IN+ (in), 4 GND (power), 5 S OUT (out), 6 RT, 7 CT, 8 VCC (power)

## LM1851N
designator U?
Ground Fault Interrupter, 8-pin MDIP; PartNumber: LM1851N; Manufacturer: National Semiconductor; PackageTopMarking: NSUZXYTTE#*LM*1851N; PowerWise: N; CompType: Analog IC; High-Reliability: Y; DatasheetVersion: Jun-1992; PackageVersion: revG, May-2006; PackageReference: N08E; PackageDescription: MDIP, .365 x .250 x .130in, 8 Lead, .100in Pitch; RoHS: N; PinCount: 8; Code_JEDEC: MS-001-BA; ComponentLink1Description: Manufacturer URL; ComponentLink1URL: http://www.national.com/; ComponentLink2Description: LM1851 Datasheet; ComponentLink2URL: http://www.national.com/ds/LM/LM1851.pdf; ComponentLink3Description: LM1851 Web Page; ComponentLink3URL: http://www.national.com/pf/LM/LM1851.html; ComponentLink4Description: N08E Package Page; ComponentLink4URL: http://www.national.com/packaging/folders/n08e.html
footprint N08E (DIP, 8-Leads, Row Spacing 7.62mm, Pitch 2.54mm, Body 9.91x6.35mm)
pins: 1 SCR TRIG (out), 2 IN- (in), 3 IN+ (in), 4 GND (power), 5 S OUT (out), 6 RT, 7 CT, 8 VCC (power)

## LM1851N/NOPB
designator U?
Ground Fault Interrupter, 8-pin MDIP, Pb-Free; PartNumber: LM1851N/NOPB; Manufacturer: National Semiconductor; PackageTopMarking: NSUZXYTTE#*LM*1851N; PowerWise: N; CompType: Analog IC; High-Reliability: Y; DatasheetVersion: Jun-1992; PackageVersion: revG, May-2006; PackageReference: N08E; PackageDescription: MDIP, .365 x .250 x .130in, 8 Lead, .100in Pitch; RoHS: Y; PinCount: 8; Code_JEDEC: MS-001-BA; ComponentLink1Description: Manufacturer URL; ComponentLink1URL: http://www.national.com/; ComponentLink2Description: LM1851 Datasheet; ComponentLink2URL: http://www.national.com/ds/LM/LM1851.pdf; ComponentLink3Description: LM1851 Web Page; ComponentLink3URL: http://www.national.com/pf/LM/LM1851.html; ComponentLink4Description: N08E Package Page; ComponentLink4URL: http://www.national.com/packaging/folders/n08e.html
footprint N08E (DIP, 8-Leads, Row Spacing 7.62mm, Pitch 2.54mm, Body 9.91x6.35mm)
pins: 1 SCR TRIG (out), 2 IN- (in), 3 IN+ (in), 4 GND (power), 5 S OUT (out), 6 RT, 7 CT, 8 VCC (power)

## LM3046M
designator U?
Transistor Array, 14-pin Narrow SOIC; PartNumber: LM3046M; Manufacturer: National Semiconductor; PackageTopMarking: NSUZXYTTE#*LM3046M; PowerWise: N; CompType: Analog IC; High-Reliability: Y; DatasheetVersion: Jul-1999; PackageVersion: revJ, Jan-1996; PackageReference: M14A; PackageDescription: Molded Package S.O., .150in Wide, 14 Lead; RoHS: N; PinCount: 14; Code_JEDEC: MS-012AB; Code_IPC: SOIC127P600-14; ComponentLink1Description: Manufacturer URL; ComponentLink1URL: http://www.national.com/; ComponentLink2Description: LM3046 Datasheet; ComponentLink2URL: http://www.national.com/ds/LM/LM3046.pdf; ComponentLink3Description: LM3046 Web Page; ComponentLink3URL: http://www.national.com/pf/LM/LM3046.html; ComponentLink4Description: M14A Package Page; ComponentLink4URL: http://www.national.com/packaging/folders/m14a.html
footprint M14A_N (SOIC, 14-Leads, Body 8.6x3.9mm, Pitch 1.27mm, IPC Medium Density)
footprint M14A_L (SOIC, 14-Leads, Body 8.6x3.9mm, Pitch 1.27mm, IPC High Density)
footprint M14A_M (SOIC, 14-Leads, Body 8.6x3.9mm, Pitch 1.27mm, IPC Low Density)
part A pins: 1 C1, 2 B1, 3 E1_2, 4 B2, 5 C2
part B pins: 6 B3, 7 E3, 8 C3
part C pins: 9 B4, 10 E4, 11 C4
part D pins: 12 B5, 13 E5, 14 C5

## LM3046MX
designator U?
Transistor Array, 14-pin Narrow SOIC; PartNumber: LM3046MX; Manufacturer: National Semiconductor; PackageTopMarking: NSUZXYTTE#*LM3046M; PowerWise: N; CompType: Analog IC; High-Reliability: Y; DatasheetVersion: Jul-1999; PackageVersion: revJ, Jan-1996; PackageReference: M14A; PackageDescription: Molded Package S.O., .150in Wide, 14 Lead; RoHS: N; PinCount: 14; Code_JEDEC: MS-012AB; Code_IPC: SOIC127P600-14; ComponentLink1Description: Manufacturer URL; ComponentLink1URL: http://www.national.com/; ComponentLink2Description: LM3046 Datasheet; ComponentLink2URL: http://www.national.com/ds/LM/LM3046.pdf; ComponentLink3Description: LM3046 Web Page; ComponentLink3URL: http://www.national.com/pf/LM/LM3046.html; ComponentLink4Description: M14A Package Page; ComponentLink4URL: http://www.national.com/packaging/folders/m14a.html
footprint M14A_N (SOIC, 14-Leads, Body 8.6x3.9mm, Pitch 1.27mm, IPC Medium Density)
footprint M14A_L (SOIC, 14-Leads, Body 8.6x3.9mm, Pitch 1.27mm, IPC High Density)
footprint M14A_M (SOIC, 14-Leads, Body 8.6x3.9mm, Pitch 1.27mm, IPC Low Density)
part A pins: 1 C1, 2 B1, 3 E1_2, 4 B2, 5 C2
part B pins: 6 B3, 7 E3, 8 C3
part C pins: 9 B4, 10 E4, 11 C4
part D pins: 12 B5, 13 E5, 14 C5

## LM3480IM3X-3.3
designator U?
100 mA, Quasi Low-Dropout Linear Voltage Regulator, 3-pin SOT-23; PartNumber: LM3480IM3X-3.3; Manufacturer: National Semiconductor; PackageTopMarking: L0A*XTT; PowerWise: N; CompType: Analog IC; High-Reliability: Y; DatasheetVersion: Mar-2005; PackageVersion: revB, Mar-2003; PackageReference: MF03A; PackageDescription: Molded SOT-23, .115 x .051 x .037in Body, 3 Lead, .075 in Pitch; RoHS: N; PinCount: 3; ComponentLink1Description: Manufacturer URL; ComponentLink1URL: http://www.national.com/; ComponentLink2Description: LM3480 Datasheet; ComponentLink2URL: http://www.national.com/ds/LM/LM3480.pdf; ComponentLink3Description: LM3480 Web Page; ComponentLink3URL: http://www.national.com/pf/LM/LM3480.html; ComponentLink4Description: MF03A Package Page; ComponentLink4URL: http://www.national.com/packaging/folders/mf03a.html
footprint MF03A_N (SOT23, 3-Leads, Body 2.9x1.3mm, Pitch 0.95mm, Lead Span 2.4mm, IPC Medium Density)
footprint MF03A_L (SOT23, 3-Leads, Body 2.9x1.3mm, Pitch 0.95mm, Lead Span 2.4mm, IPC High Density)
footprint MF03A_M (SOT23, 3-Leads, Body 2.9x1.3mm, Pitch 0.95mm, Lead Span 2.4mm, IPC Low Density)
pins: 1 OUT (power), 2 IN (power), 3 GND (power)

## LM3480IM3X-5.0
designator U?
100 mA, Quasi Low-Dropout Linear Voltage Regulator, 3-pin SOT-23; PartNumber: LM3480IM3X-5.0; Manufacturer: National Semiconductor; PackageTopMarking: L0B*XTT; PowerWise: N; CompType: Analog IC; High-Reliability: Y; DatasheetVersion: Mar-2005; PackageVersion: revB, Mar-2003; PackageReference: MF03A; PackageDescription: Molded SOT-23, .115 x .051 x .037in Body, 3 Lead, .075 in Pitch; RoHS: N; PinCount: 3; ComponentLink1Description: Manufacturer URL; ComponentLink1URL: http://www.national.com/; ComponentLink2Description: LM3480 Datasheet; ComponentLink2URL: http://www.national.com/ds/LM/LM3480.pdf; ComponentLink3Description: LM3480 Web Page; ComponentLink3URL: http://www.national.com/pf/LM/LM3480.html; ComponentLink4Description: MF03A Package Page; ComponentLink4URL: http://www.national.com/packaging/folders/mf03a.html
footprint MF03A_N (SOT23, 3-Leads, Body 2.9x1.3mm, Pitch 0.95mm, Lead Span 2.4mm, IPC Medium Density)
footprint MF03A_L (SOT23, 3-Leads, Body 2.9x1.3mm, Pitch 0.95mm, Lead Span 2.4mm, IPC High Density)
footprint MF03A_M (SOT23, 3-Leads, Body 2.9x1.3mm, Pitch 0.95mm, Lead Span 2.4mm, IPC Low Density)
pins: 1 OUT (power), 2 IN (power), 3 GND (power)

## LM3480IM3X-12
designator U?
100 mA, Quasi Low-Dropout Linear Voltage Regulator, 3-pin SOT-23; PartNumber: LM3480IM3X-12; Manufacturer: National Semiconductor; PackageTopMarking: L0C*XTT; PowerWise: N; CompType: Analog IC; High-Reliability: Y; DatasheetVersion: Mar-2005; PackageVersion: revB, Mar-2003; PackageReference: MF03A; PackageDescription: Molded SOT-23, .115 x .051 x .037in Body, 3 Lead, .075 in Pitch; RoHS: N; PinCount: 3; ComponentLink1Description: Manufacturer URL; ComponentLink1URL: http://www.national.com/; ComponentLink2Description: LM3480 Datasheet; ComponentLink2URL: http://www.national.com/ds/LM/LM3480.pdf; ComponentLink3Description: LM3480 Web Page; ComponentLink3URL: http://www.national.com/pf/LM/LM3480.html; ComponentLink4Description: MF03A Package Page; ComponentLink4URL: http://www.national.com/packaging/folders/mf03a.html
footprint MF03A_N (SOT23, 3-Leads, Body 2.9x1.3mm, Pitch 0.95mm, Lead Span 2.4mm, IPC Medium Density)
footprint MF03A_L (SOT23, 3-Leads, Body 2.9x1.3mm, Pitch 0.95mm, Lead Span 2.4mm, IPC High Density)
footprint MF03A_M (SOT23, 3-Leads, Body 2.9x1.3mm, Pitch 0.95mm, Lead Span 2.4mm, IPC Low Density)
pins: 1 OUT (power), 2 IN (power), 3 GND (power)

## LM3480IM3X-15
designator U?
100 mA, Quasi Low-Dropout Linear Voltage Regulator, 3-pin SOT-23; PartNumber: LM3480IM3X-15; Manufacturer: National Semiconductor; PackageTopMarking: L0D*XTT; PowerWise: N; CompType: Analog IC; High-Reliability: Y; DatasheetVersion: Mar-2005; PackageVersion: revB, Mar-2003; PackageReference: MF03A; PackageDescription: Molded SOT-23, .115 x .051 x .037in Body, 3 Lead, .075 in Pitch; RoHS: N; PinCount: 3; ComponentLink1Description: Manufacturer URL; ComponentLink1URL: http://www.national.com/; ComponentLink2Description: LM3480 Datasheet; ComponentLink2URL: http://www.national.com/ds/LM/LM3480.pdf; ComponentLink3Description: LM3480 Web Page; ComponentLink3URL: http://www.national.com/pf/LM/LM3480.html; ComponentLink4Description: MF03A Package Page; ComponentLink4URL: http://www.national.com/packaging/folders/mf03a.html
footprint MF03A_N (SOT23, 3-Leads, Body 2.9x1.3mm, Pitch 0.95mm, Lead Span 2.4mm, IPC Medium Density)
footprint MF03A_L (SOT23, 3-Leads, Body 2.9x1.3mm, Pitch 0.95mm, Lead Span 2.4mm, IPC High Density)
footprint MF03A_M (SOT23, 3-Leads, Body 2.9x1.3mm, Pitch 0.95mm, Lead Span 2.4mm, IPC Low Density)
pins: 1 OUT (power), 2 IN (power), 3 GND (power)

## LM8300IMT9B
designator U?
Four Wire Resistive Touchscreen Controller with Brownout, 48-pin TSSOP; PartNumber: LM8300IMT9B; Manufacturer: National Semiconductor; PackageTopMarking: NS2ZXYTTE#*LM8300IMT9; PowerWise: N; CompType: Analog IC; High-Reliability: Y; DatasheetVersion: Dec-2003; PackageVersion: revE, Apr-2003; PackageReference: MTD48; PackageDescription: Molded TSSOP, Jedec, 12.5 x 6.1 x 0.9mm Body, 48 Lead, 0.50mm Pitch; RoHS: N; PinCount: 48; Code_JEDEC: MO-153-ED; ComponentLink1Description: Manufacturer URL; ComponentLink1URL: http://www.national.com/; ComponentLink2Description: LM8300 Datasheet; ComponentLink2URL: http://www.national.com/ds/LM/LM8300.pdf; ComponentLink3Description: LM8300 Web Page; ComponentLink3URL: http://www.national.com/pf/LM/LM8300.html; ComponentLink4Description: MTD48 Package Page; ComponentLink4URL: http://www.national.com/packaging/folders/mtd48.html
footprint MTD48_N (TSSOP, 48-Leads, Body 12.5x6.1mm, Pitch 0.5mm, IPC Medium Density)
footprint MTD48_L (TSSOP, 48-Leads, Body 12.5x6.1mm, Pitch 0.5mm, IPC High Density)
footprint MTD48_M (TSSOP, 48-Leads, Body 12.5x6.1mm, Pitch 0.5mm, IPC Low Density)
part A pins: 1 ~{RESET} (in), 2 DTR (in), 3 WD_OUT (out), 9 OSC_OUT (out), 10 OSC_IN (in), 13 UART_TX (out), 14 UART_RX (in), 15 ~{SHUTDOWN} (in), 18 WAKE-UP (in), 19 X+ (io), 20 Y- (io), 21 X- (io), 22 Y+ (io), 25 FILT_OUT (out), 26 FILT_IN (in), 27 GND (power), 28 AGND (power), 31 AVCC (power), 32 VCC (power), 41 LED (out)
part B pins: 4 NC, 5 NC, 6 NC, 7 NC, 8 NC, 11 NC, 12 NC, 16 NC, 17 NC, 23 NC, 24 NC, 29 NC, 30 NC, 33 NC, 34 NC, 35 NC, 36 NC, 37 NC, 38 NC, 39 NC, 40 NC, 42 NC, 43 NC, 44 NC, 45 NC, 46 NC, 47 NC, 48 NC

## LM8500IMT9B
designator U?
Four Wire Resistive Touchscreen Controller with Brownout, 48-pin TSSOP; PartNumber: LM8500IMT9B; Manufacturer: National Semiconductor; PackageTopMarking: NS2ZXYTTE#*LM8500IMT9; PowerWise: N; CompType: Analog IC; High-Reliability: Y; DatasheetVersion: Dec-2003; PackageVersion: revE, Apr-2003; PackageReference: MTD48; PackageDescription: Molded TSSOP, Jedec, 12.5 x 6.1 x 0.9mm Body, 48 Lead, 0.50mm Pitch; RoHS: N; PinCount: 48; Code_JEDEC: MO-153-ED; ComponentLink1Description: Manufacturer URL; ComponentLink1URL: http://www.national.com/; ComponentLink2Description: LM8500 Datasheet; ComponentLink2URL: http://www.national.com/ds/LM/LM8500.pdf; ComponentLink3Description: LM8500 Web Page; ComponentLink3URL: http://www.national.com/pf/LM/LM8500.html; ComponentLink4Description: MTD48 Package Page; ComponentLink4URL: http://www.national.com/packaging/folders/mtd48.html
footprint MTD48_N (TSSOP, 48-Leads, Body 12.5x6.1mm, Pitch 0.5mm, IPC Medium Density)
footprint MTD48_L (TSSOP, 48-Leads, Body 12.5x6.1mm, Pitch 0.5mm, IPC High Density)
footprint MTD48_M (TSSOP, 48-Leads, Body 12.5x6.1mm, Pitch 0.5mm, IPC Low Density)
part A pins: 1 ~{RESET} (in), 2 DTR (in), 3 WD_OUT (out), 4 CLK_SET (in), 9 OSC_OUT (out), 10 OSC_IN (in), 13 UART_TX (out), 14 UART_RX (in), 15 ~{SHUTDOWN} (in), 18 WAKE-UP (in), 19 X+ (io), 20 Y- (io), 21 X- (io), 22 Y+ (io), 25 FILT_OUT (out), 26 FILT_IN (in), 27 GND (power), 28 AGND (power), 31 AVCC (power), 32 VCC (power), 41 LED (out)
part B pins: 5 NC, 6 NC, 7 NC, 8 NC, 11 NC, 12 NC, 16 NC, 17 NC, 23 NC, 24 NC, 29 NC, 30 NC, 33 NC, 34 NC, 35 NC, 36 NC, 37 NC, 38 NC, 39 NC, 40 NC, 42 NC, 43 NC, 44 NC, 45 NC, 46 NC, 47 NC, 48 NC

## LM9044VX
designator U?
Lambda Sensor Interface Amplifier, 20-pin PLCC; PartNumber: LM9044VX; Manufacturer: National Semiconductor; PackageTopMarking: NSUZXYTTE#*LM9044V; PowerWise: N; CompType: Analog IC; High-Reliability: Y; DatasheetVersion: Mar-2009; PackageVersion: revL, Dec-1993; PackageReference: V20A; PackageDescription: Plastic Chip Carrier, Sq., .050in Pitch, 20 Lead; RoHS: N; PinCount: 20; Code_JEDEC: MO-047-AA; Code_IPC: PLCC-20; ComponentLink1Description: Manufacturer URL; ComponentLink1URL: http://www.national.com/; ComponentLink2Description: LM9044 Datasheet; ComponentLink2URL: http://www.national.com/ds/LM/LM9044.pdf; ComponentLink3Description: LM9044 Web Page; ComponentLink3URL: http://www.national.com/pf/LM/LM9044.html; ComponentLink4Description: V20A Package Page; ComponentLink4URL: http://www.national.com/packaging/folders/v20a.html
footprint V20A_N (Leaded Chip Carrier, 20-Leads, Body 9x9mm, Pitch 1.27mm, IPC Medium Density)
footprint V20A_L (Leaded Chip Carrier, 20-Leads, Body 9x9mm, Pitch 1.27mm, IPC High Density)
footprint V20A_M (Leaded Chip Carrier, 20-Leads, Body 9x9mm, Pitch 1.27mm, IPC Low Density)
pins: 1 TRIM, 2 GND (power), 3 TRIM, 4 TRIM, 5 -IN (in), 6 TRIM, 7 +IN (in), 8 TRIM, 9 TRIM, 10 TRIM, 11 TRIM, 12 VOUT (out), 13 TRIM, 14 TRIM, 15 RF, 16 TRIM, 17 VCC (power), 18 TRIM, 19 TRIM, 20 VREF (in)

## LM9061MX
designator U?
Power MOSFET Driver with Lossless Protection, 8-pin Narrow SOIC; PartNumber: LM9061MX; Manufacturer: National Semiconductor; PackageTopMarking: NSZXTT*LM90*61M; PowerWise: N; CompType: Analog IC; High-Reliability: Y; DatasheetVersion: May-2009; PackageVersion: revM, May-2009; PackageReference: M08A; PackageDescription: SOIC Narrow, 4.9 x 3.9 x 1.45mm, 8 Lead, 1.27mm Pitch; RoHS: N; PinCount: 8; Code_JEDEC: MS-012-AA; Code_IPC: SOIC127P600-8; ComponentLink1Description: Manufacturer URL; ComponentLink1URL: http://www.national.com/; ComponentLink2Description: LM9061 Datasheet; ComponentLink2URL: http://www.national.com/ds/LM/LM9061.pdf; ComponentLink3Description: LM9061 Web Page; ComponentLink3URL: http://www.national.com/pf/LM/LM9061.html; ComponentLink4Description: M08A Package Page; ComponentLink4URL: http://www.national.com/packaging/folders/m08a.html
footprint M08A_N (SOIC, 8-Leads, Body 4.9x3.9mm, Pitch 1.27mm, IPC Medium Density)
footprint M08A_L (SOIC, 8-Leads, Body 4.9x3.9mm, Pitch 1.27mm, IPC High Density)
footprint M08A_M (SOIC, 8-Leads, Body 4.9x3.9mm, Pitch 1.27mm, IPC Low Density)
pins: 1 SENSE (in), 2 THR (in), 3 GND (power), 4 OUT (out), 5 VCC (power), 6 IREF, 7 ON/OFF (in), 8 DELAY

## LM9074MX
designator U?
System Voltage Regulator with Keep-Alive ON/OFF Control, 14-pin Narrow SOIC; PartNumber: LM9074MX; Manufacturer: National Semiconductor; PackageTopMarking: NSUZXYTTE#*LM9074M; PowerWise: N; CompType: Analog IC; High-Reliability: Y; DatasheetVersion: Nov-2005; PackageVersion: revJ, Jan-1996; PackageReference: M14A; PackageDescription: Molded Package S.O., .150in Wide, 14 Lead; RoHS: N; PinCount: 14; Code_JEDEC: MS-012AB; Code_IPC: SOIC127P600-14; ComponentLink1Description: Manufacturer URL; ComponentLink1URL: http://www.national.com/; ComponentLink2Description: LM9074 Datasheet; ComponentLink2URL: http://www.national.com/ds/LM/LM9074.pdf; ComponentLink3Description: LM9074 Web Page; ComponentLink3URL: http://www.national.com/pf/LM/LM9074.html; ComponentLink4Description: M14A Package Page; ComponentLink4URL: http://www.national.com/packaging/folders/m14a.html
footprint M14A_N (SOIC, 14-Leads, Body 8.6x3.9mm, Pitch 1.27mm, IPC Medium Density)
footprint M14A_L (SOIC, 14-Leads, Body 8.6x3.9mm, Pitch 1.27mm, IPC High Density)
footprint M14A_M (SOIC, 14-Leads, Body 8.6x3.9mm, Pitch 1.27mm, IPC Low Density)
pins: 1 VIN (power), 2 NC, 3 GND (power), 4 GND (power), 5 GND (power), 6 ON/~{OFF} (in), 7 ~{RESET} (out), 8 C DELAY, 9 KEEP ALIVE (in), 10 GND (power), 11 GND (power), 12 GND (power), 13 VOUT (power), 14 GND (power)

## LMC555CM
designator U?
CMOS Timer, 8-pin Narrow SOIC; PartNumber: LMC555CM; Manufacturer: National Semiconductor; PackageTopMarking: NSZXTT*LMC*555CM; PowerWise: N; CompType: Analog IC; High-Reliability: Y; DatasheetVersion: May-2006; PackageVersion: revM, May-2009; PackageReference: M08A; PackageDescription: SOIC Narrow, 4.9 x 3.9 x 1.45mm, 8 Lead, 1.27mm Pitch; RoHS: N; PinCount: 8; Code_JEDEC: MS-012-AA; Code_IPC: SOIC127P600-8; ComponentLink1Description: Manufacturer URL; ComponentLink1URL: http://www.national.com/; ComponentLink2Description: LMC555 Datasheet; ComponentLink2URL: http://www.national.com/ds/LM/LMC555.pdf; ComponentLink3Description: LMC555 Web Page; ComponentLink3URL: http://www.national.com/pf/LM/LMC555.html; ComponentLink4Description: M08A Package Page; ComponentLink4URL: http://www.national.com/packaging/folders/m08a.html
footprint M08A_N (SOIC, 8-Leads, Body 4.9x3.9mm, Pitch 1.27mm, IPC Medium Density)
footprint M08A_L (SOIC, 8-Leads, Body 4.9x3.9mm, Pitch 1.27mm, IPC High Density)
footprint M08A_M (SOIC, 8-Leads, Body 4.9x3.9mm, Pitch 1.27mm, IPC Low Density)
pins: 1 GND (power), 2 ~{TRIG} (in), 3 OUT (out), 4 ~{RST} (in), 5 CVOLT, 6 THR (in), 7 DIS (oc), 8 V+ (power)